# Altium schematic symbol library buckinductor.SchLib: 1 symbol
Pins are listed as number, name and electrical type; pins without a type are passive.

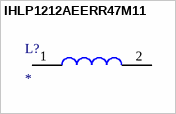
[diagram p0: symbol IHLP1212AEERR47M11]

## IHLP1212AEERR47M11
designator L?
Inductor Power Shielded Wirewound 470nH 20% 100KHz 6.7A 15mOhm DCR 1212 T/R; Manufacturer_Name: Vishay; Manufacturer_Part_Number: IHLP1212AEERR47M11; Manufacturer: Vishay Dale; Core Material: Ferrite; Self Resonant Frequency: 1MHz; DC Resistance (DCR): 15mR; Datasheet Link: http://www.mouser.com/datasheet/2/427/lp12ae11-244382.pdf; Height: 1.5mm; Mouser Part Number: 70-IHLP1212AEERR47M1; Mouser Price/Stock: https://www.mouser.co.uk/ProductDetail/Vishay-Dale/IHLP1212AEERR47M11/?qs=hVaL6jEgczp7NPonCjkBaw%3D%3D; Arrow Part Number: IHLP1212AEERR47M11; Arrow Price/Stock: https://www.arrow.com/en/products/ihlp1212aeerr47m11/vishay; Supplier 1: Digi-Key; Manufacturer Part Number: IHLP1212AEERR47M11; RoHS: Yes; Category: Fixed Inductors; Stock 1: 46867; Pricing 1: 1=1.26000, 10=1.17000, 25=1.08000, 50=0.90000, 100=0.84600, 250=0.75600, 500=0.64800, 1000=0.57600 (USD); Mount: Surface Mount; Case/Package: 1212; Number of Pins: 2; Min Operating Temperature: -55°C; Max Operating Temperature: 125°C; Packaging: Tape and Reel; Tolerance: 20%; Inductance Tolerance: 20%; Shielding: Shielded; Package Quantity: 3000; Current Rating: 6.7A; Saturation Current: 6.7A; Inductance: 470nH; Max DC Current: 6.7A; Termination: SMD/SMT; Test Frequency: 100kHz; RMS Current (Irms): 6.7A; Series: IHLP-1212AE-11; Rated Current-Max: 6.7A; Length: 3.6mm; Width: 3mm; Height - Seated (Max): 0.059inch; Depth: 3.2mm; Radiation Hardening: No; REACH SVHC: Unknown; Military Standard: Not; Lead Free: Lead Free; RoHS Compliant: Yes; ComponentLink1URL: https://datasheet.ciiva.com/3081/lp12ae11-3081904.pdf?src-supplier=Avnet; ComponentLink1Description: https://datasheet.ciiva.com/3081/lp12ae11-3081904.pdf?src-supplier=Avnet; ComponentLink2URL: https://datasheet.ciiva.com/3081/lp12ae11-3081905.pdf?src-supplier=Avnet; ComponentLink2Description: https://datasheet.ciiva.com/3081/lp12ae11-3081905.pdf?src-supplier=Avnet; ComponentLink3URL: https://datasheet.ciiva.com/28651/1836116-28651335.pdf?src-supplier=Element14; ComponentLink3Description: https://datasheet.ciiva.com/28651/1836116-28651335.pdf?src-supplier=Element14; ComponentLink4URL: https://datasheet.ciiva.com/6692/ihlp-1212ae-11-6692009.pdf?src-supplier=Digi-Key; ComponentLink4Description: https://datasheet.ciiva.com/6692/ihlp-1212ae-11-6692009.pdf?src-supplier=Digi-Key; ComponentLink5URL: https://datasheet.ciiva.com/6692/ihlp-1212ae-11-6692010.pdf?src-supplier=Digi-Key; ComponentLink5Description: https://datasheet.ciiva.com/6692/ihlp-1212ae-11-6692010.pdf?src-supplier=Digi-Key; ComponentLink6URL: https://datasheet.ciiva.com/6692/ihlp-1212ae-11-6692011.pdf?src-supplier=Digi-Key; ComponentLink6Description: https://datasheet.ciiva.com/6692/ihlp-1212ae-11-6692011.pdf?src-supplier=Digi-Key; ComponentLink7URL: https://datasheet.ciiva.com/7649/lp12ae11-7649723.pdf?src-supplier=Element14; ComponentLink7Description: https://datasheet.ciiva.com/7649/lp12ae11-7649723.pdf?src-supplier=Element14; Supplier Part Number 1: 541-1330-1-ND
footprint INDPM3630X150N
pins: 1, 2